# EAGLE library part TITAN_X1_BREAKOUT (library High Ball Library)
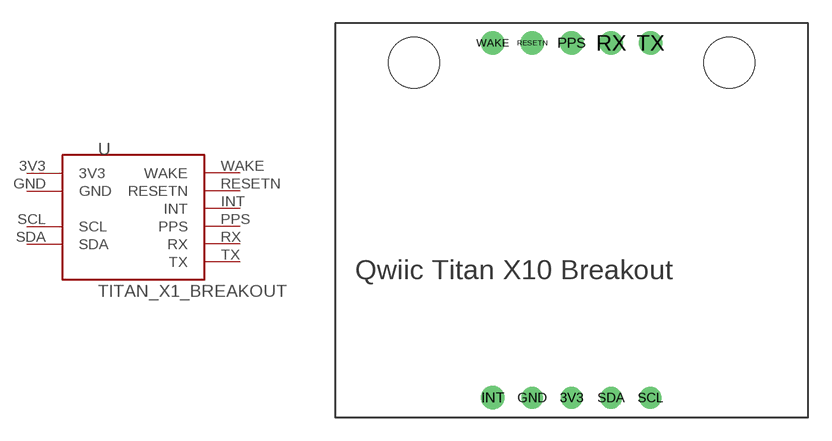
[diagram p2: symbol with the pads of QWIIC_TITAN_X1_BREAKOUT; footprint QWIIC_TITAN_X1_BREAKOUT]

Designator prefix -

## TITAN_X1_BREAKOUT  [QWIIC_TITAN_X1_BREAKOUT]
3V3  3V3
GND  GND
INT  INT
PPS  PPS
RESETN  RESETN
RX  RX
SCL  SCL
SDA  SDA
TX  TX
WAKE  WAKE

## Footprint QWIIC_TITAN_X1_BREAKOUT (pad centres in mm)
drill 0.9: 3V3 15.24,1.27; GND 12.7,1.27; SCL 20.32,1.27; SDA 17.78,1.27
drill 1: INT 10.16,1.27; PPS 15.24,24.13; RESETN 12.7,24.13; RX 17.78,24.13; TX 20.32,24.13; WAKE 10.16,24.13
hole 3.264 at 5.08,22.86
hole 3.264 at 25.4,22.86